# EAGLE library part MINICON (library E88CC)
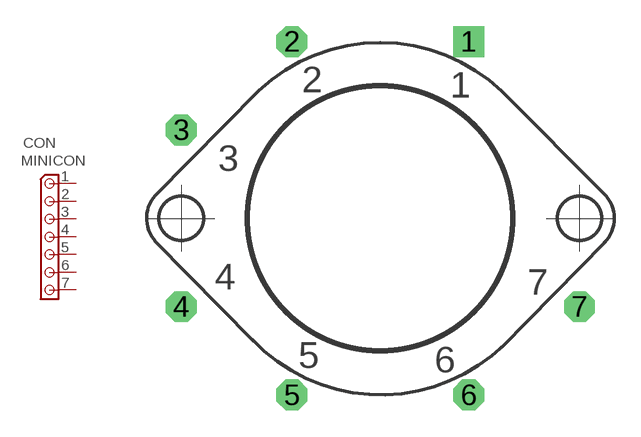
[diagram p22: symbol with the pads of MINI_G; footprint MINI_G]

Designator prefix CON

## MINICON  [MINI_G]
1  1  pas
2  2  pas
3  3  pas
4  4  pas
5  5  pas
6  6  pas
7  7  pas

## Footprint MINI_G (pad centres in mm)
drill 1 pad 1.778 square: 1 5.08,10.16
drill 1 pad 1.778 octagon: 2 -5.08,10.16; 3 -11.43,5.08; 4 -11.43,-5.08; 5 -5.08,-10.16; 6 5.08,-10.16; 7 11.43,-5.08